# Altium schematic symbol library LM2733XMF_NOPB.SchLib: 1 symbol
Pins are listed as number, name and electrical type; pins without a type are passive.

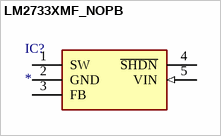
[diagram p0: symbol LM2733XMF_NOPB]

## LM2733XMF_NOPB
designator IC?
Integrated Circuit; Manufacturer_Name: Texas Instruments; Manufacturer_Part_Number: LM2733XMF/NOPB; Description: 0.6/1.6 MHz Boost Converters With 40V Internal FET Switch in SOT-23; Datasheet Link: http://www.ti.com/lit/ds/symlink/lm2733.pdf; Height: 1.45mm; Mouser Part Number: 926-LM2733XMF/NOPB; Mouser Price/Stock: https://www.mouser.com/Search/Refine.aspx?Keyword=926-LM2733XMF%2FNOPB; RS Part Number: 5335424P; RS Price/Stock: http://uk.rs-online.com/web/p/products/5335424P
footprint SOT95P280X145-5N
pins: 1 SW, 2 GND (power), 3 FB, 4 ~{SHDN}, 5 VIN (in)